# EAGLE library part FS7140-01G-XTD (library ON Semiconductor_By_element14_Batch_1)
Programmable Phase-Locked Loop Clock Generator
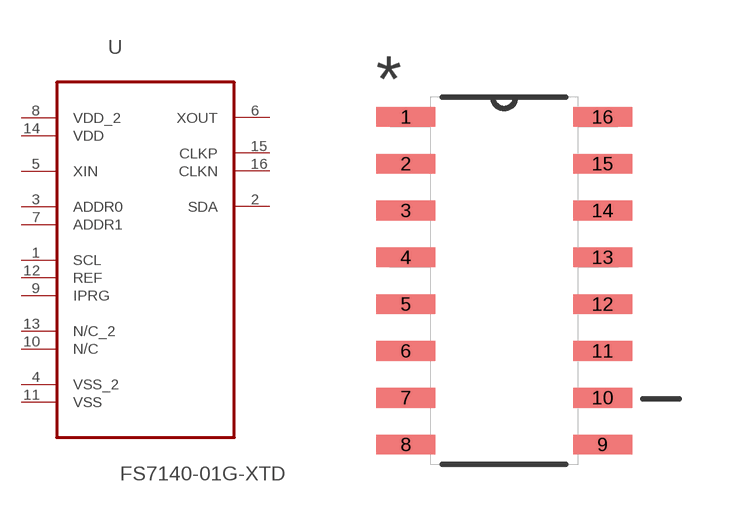
[diagram p26: symbol with the pads of SOIC127P600X173-16N; footprint SOIC127P600X173-16N]

Designator prefix U

## FS7140-01G-XTD (MPN: FS7140-01G-XTD; OC_FARNELL: 1641420; OC_NEWARK: 03P0844; PACKAGE: SOIC-16; SUPPLIER: ON SEMICONDUCTOR)  [SOIC127P600X173-16N]
1  SCL  in
2  SDA
3  ADDR0  in
4  VSS_2  pas
5  XIN  in
6  XOUT  out
7  ADDR1  in
8  VDD_2  pwr
9  IPRG  in
10  N/C  nc
11  VSS  pas
12  REF  in
13  N/C_2  nc
14  VDD  pwr
15  CLKP  out
16  CLKN  out

## Footprint SOIC127P600X173-16N (pad centres in mm)
smd 1.6 x 0.533: 1 -2.667,4.445; 2 -2.667,3.175; 3 -2.667,1.905; 4 -2.667,0.635; 5 -2.667,-0.635; 6 -2.667,-1.905; 7 -2.667,-3.175; 8 -2.667,-4.445; 9 2.667,-4.445; 10 2.667,-3.175; 11 2.667,-1.905; 12 2.667,-0.635; 13 2.667,0.635; 14 2.667,1.905; 15 2.667,3.175; 16 2.667,4.445